# Altium schematic symbol library LIS302DL.SchLib: 1 symbol
Pins are listed as number, name and electrical type; pins without a type are passive.

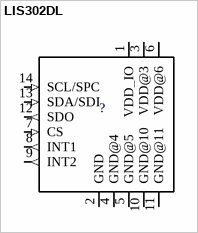
[diagram p0: symbol LIS302DL]

## LIS302DL
designator ?  (value not drawn)
Value: *
footprint LGA14_LIS302DL(Primary)
pins: 1 VDD_IO (power), 2 GND (power), 3 VDD@3 (power), 4 GND@4 (power), 5 GND@5 (power), 6 VDD@6 (power), 7 CS (in), 8 INT1 (out), 9 INT2 (out), 10 GND@10 (power), 11 GND@11 (power), 12 SDO (out), 13 SDA/SDI (in), 14 SCL/SPC (in)